# Altium schematic symbol library Antena.SchLib: 1 symbol
Pins are listed as number, name and electrical type; pins without a type are passive.

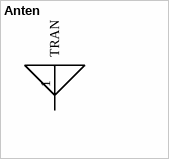
[diagram p0: symbol Anten]

## Anten
designator R?
pins: 1 TRAN